# Altium integrated library 常用芯片.IntLib: 14 symbols
Pins are listed as number, name and electrical type; pins without a type are passive.

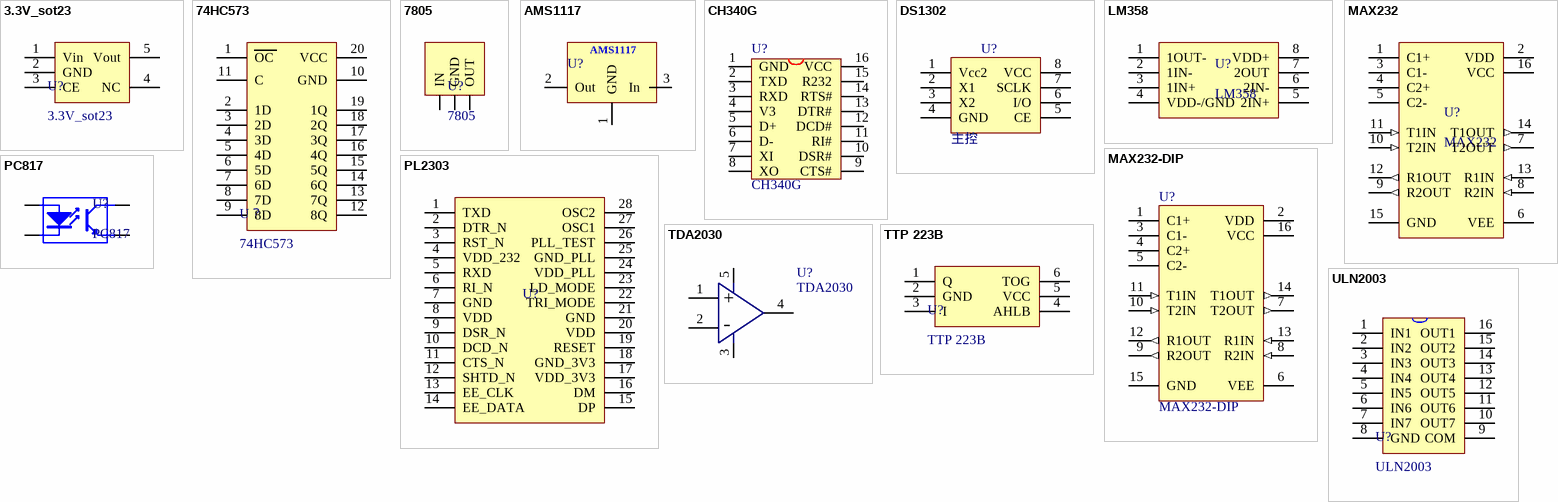
[diagram p0: symbols 3.3V_sot23 to ULN2003]

## 3.3V_sot23
designator U?
footprint sot-5
pins: 1 Vin, 2 GND, 3 CE, 4 NC, 5 Vout

## 74HC573
designator U？
footprint 74hc573tp
pins: 1 OC, 2 1D, 3 2D, 4 3D, 5 4D, 6 5D, 7 6D, 8 7D, 9 8D, 10 GND, 11 C, 12 8Q, 13 7Q, 14 6Q, 15 5Q, 16 4Q, 17 3Q, 18 2Q, 19 1Q, 20 VCC

## 7805
designator U?
footprint TO-220
pins: 1 IN, 2 GND, 3 OUT

## AMS1117
designator U?  (value not drawn)
footprint AMS1117
pins: 1 GND, 2 Out, 3 In

## CH340G
designator U?
USB2UART
footprint SOP16M
pins: 1 GND, 2 TXD, 3 RXD, 4 V3, 5 D+, 6 D-, 7 XI, 8 XO, 9 CTS#, 10 DSR#, 11 RI#, 12 DCD#, 13 DTR#, 14 RTS#, 15 R232, 16 VCC

## DS1302
designator U?, comment 主控
footprint SO-8N
footprint DIP-8N
pins: 1 Vcc2, 2 X1, 3 X2, 4 GND, 5 CE, 6 I/O, 7 SCLK, 8 VCC

## LM358
designator U?
footprint SO-8N
footprint DIP-8N
pins: 1 1OUT-, 2 1IN-, 3 1IN+, 4 VDD-/GND (power), 5 2IN+, 6 2IN-, 7 2OUT, 8 VDD+

## MAX232
designator U?
footprint NSOP-16
pins: 1 C1+, 2 VDD (power), 3 C1-, 4 C2+, 5 C2-, 6 VEE (power), 7 T2OUT (out), 8 R2IN (in), 9 R2OUT (out), 10 T2IN (in), 11 T1IN (in), 12 R1OUT (out), 13 R1IN (in), 14 T1OUT (out), 15 GND (power), 16 VCC (power)

## MAX232-DIP
designator U?
footprint DIP-16N
pins: 1 C1+, 2 VDD (power), 3 C1-, 4 C2+, 5 C2-, 6 VEE (power), 7 T2OUT (out), 8 R2IN (in), 9 R2OUT (out), 10 T2IN (in), 11 T1IN (in), 12 R1OUT (out), 13 R1IN (in), 14 T1OUT (out), 15 GND (power), 16 VCC (power)

## PC817
designator U?
footprint DIP-4N
pins: 1 A "Anode", 2 K "Cathode", 3 E "Emitter", 4 C "Collector"

## PL2303
designator U?
footprint SSOP-28
footprint SSOP-28
pins: 1 TXD, 2 DTR_N, 3 RST_N, 4 VDD_232, 5 RXD, 6 RI_N, 7 GND, 8 VDD, 9 DSR_N, 10 DCD_N, 11 CTS_N, 12 SHTD_N, 13 EE_CLK, 14 EE_DATA, 15 DP, 16 DM, 17 VDD_3V3, 18 GND_3V3, 19 RESET, 20 VDD, 21 GND, 22 TRI_MODE, 23 LD_MODE, 24 VDD_PLL, 25 GND_PLL, 26 PLL_TEST, 27 OSC1, 28 OSC2

## TDA2030
designator U?
footprint TDA2030
pins: 1, 2, 3, 4, 5
text: +; -

## TTP 223B
designator U?
footprint SOT-6
pins: 1 Q, 2 GND, 3 I, 4 AHLB, 5 VCC, 6 TOG

## ULN2003
designator U?
footprint NSOP-16
pins: 1 IN1, 2 IN2, 3 IN3, 4 IN4, 5 IN5, 6 IN6, 7 IN7, 8 GND, 9 COM, 10 OUT7, 11 OUT6, 12 OUT5, 13 OUT4, 14 OUT3, 15 OUT2, 16 OUT1